# Altium footprint library Cap0402.PcbLib: 1 footprints
Each footprint in its own frame and in the unit in brackets; x right, y up, seen from the top. Pads: shape width x height; smd on the part's side, far side on the other; paste and mask are expansions set on the pad; w line width, h text height; cw(c..) or ccw(c..) is an arc to the next point about the centre after c.
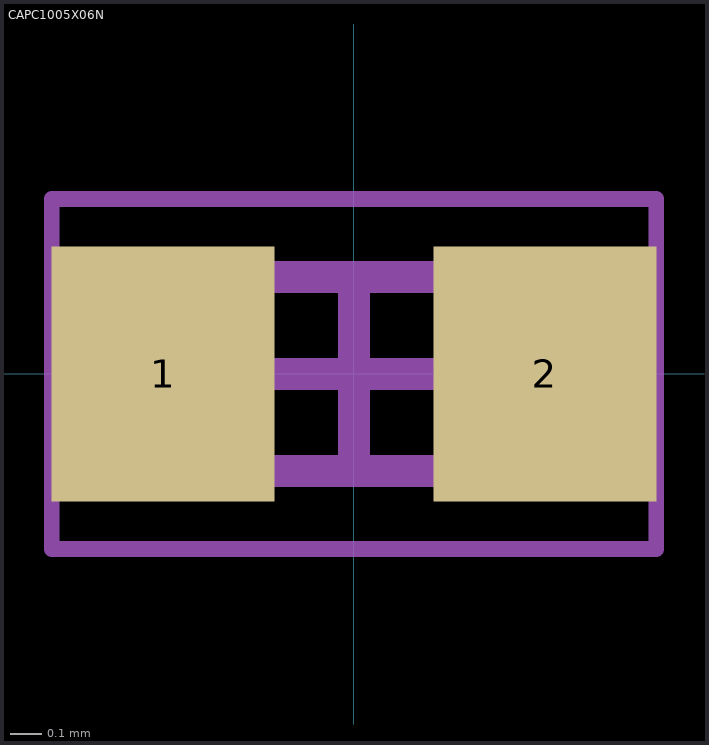
[diagram p0: the footprint, top view; thin cyan lines are the x and y axes]

## CAPC1005X06N [mm] "Chip Capacitor, 2-Leads, Body 1.02x0.51mm, IPC Medium Density"
height 0.61
pads (2):
  rect 0.7x0.8 smd: 1(-0.6,0) 2(0.6,0)
Mechanical 13:
  lines w0.1: -0.56,-0.305 0.56,-0.305 0.56,0.305 -0.56,0.305 -0.56,-0.305
Mechanical 15:
  lines w0.05: -0.95,-0.55 0.95,-0.55 0.95,0.55 -0.95,0.55 -0.95,-0.55
  lines w0.1: -0.305,0 0.305,0 ; 0,-0.305 0,0.305
3D body "CAPC1005X06N.step": height 0.61, standoff 0, extent -0.56,-0.305 0.56,0.305